# EAGLE library part DPDT-VERTICAL-DOWN (library Switches)
Vertical DPDT switch in the down position.
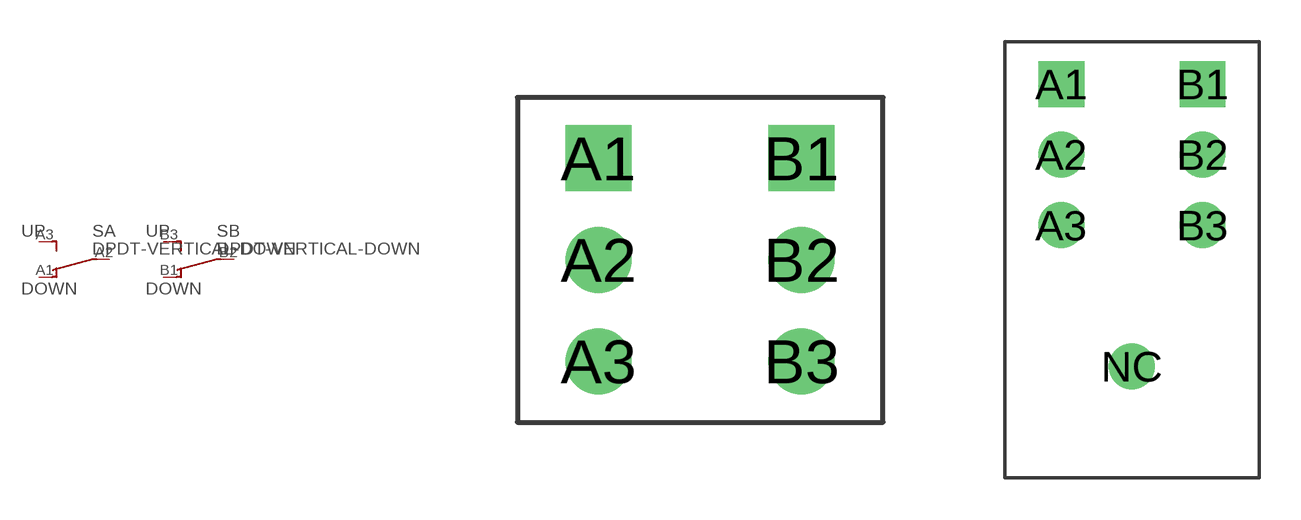
[diagram p1: symbol with the pads of DPDT-VERTICAL-TOP-SUBMINI-MULTICOMP; footprints DPDT-VERTICAL-TOP-SUBMINI-MULTICOMP, DPDT-VERTICAL-SIDE-SUBMINI-MULTICOMP]

Designator prefix S; gates A=SPDT-VERTICAL-DOWN B=SPDT-VERTICAL-DOWN

## DPDT-VERTICAL-DOWNTOP-SUBMINI (SPICE: R{NAME}A {A.2.NET} {A.1.NET} 1\nR{NAME}B {B.2.NET} {B.1.NET} 1)  [DPDT-VERTICAL-TOP-SUBMINI-MULTICOMP]
A1  A:1  pas
A2  A:2  pas
A3  A:3  pas
B1  B:1  pas
B2  B:2  pas
B3  B:3  pas

## DPDT-VERTICAL-DOWNSIDE-SUBMINI (SPICE: R{NAME}A {A.2.NET} {A.1.NET} 1\nR{NAME}B {B.2.NET} {B.1.NET} 1)  [DPDT-VERTICAL-SIDE-SUBMINI-MULTICOMP]
Pads as for DPDT-VERTICAL-TOP-SUBMINI-MULTICOMP

## DPDT-VERTICAL-DOWNTOP-MINI (SPICE: R{NAME}A {A.2.NET} {A.1.NET} 1\nR{NAME}B {B.2.NET} {B.1.NET} 1)  [DPDT-VERTICAL-TOP-MINI-MULTICOMP]
Pads as for DPDT-VERTICAL-TOP-SUBMINI-MULTICOMP

## DPDT-VERTICAL-DOWNSIDE-MINI (SPICE: R{NAME}A {A.2.NET} {A.1.NET} 1\nR{NAME}B {B.2.NET} {B.1.NET} 1)  [DPDT-VERTICAL-SIDE-MINI-MULTICOMP]
Pads as for DPDT-VERTICAL-TOP-SUBMINI-MULTICOMP

## Footprint DPDT-VERTICAL-TOP-SUBMINI-MULTICOMP (pad centres in mm)
Multicomp vertical top adjust DPDT switch, 1.1mm drill, 0.1in lead spacing.
drill 1.1 square: A1 -2.54,2.54; B1 2.54,2.54
drill 1.1 round: A2 -2.54,0; A3 -2.54,-2.54; B2 2.54,0; B3 2.54,-2.54

## Footprint DPDT-VERTICAL-SIDE-SUBMINI-MULTICOMP (pad centres in mm)
Multicomp vertical side adjust DPDT switch, 1.1mm drill, 0.1in lead spacing.
drill 1.1 square: A1 -2.54,10.16; B1 2.54,10.16
drill 1.1 round: A2 -2.54,7.62; A3 -2.54,5.08; B2 2.54,7.62; B3 2.54,5.08; NC 0,0

## Footprint DPDT-VERTICAL-TOP-MINI-MULTICOMP (pad centres in mm)
Multicomp vertical top adjust miniature DPDT switch, 1.9mm drill, 0.185in lead spacing.
drill 1.9 square: A1 -2.413,4.699; B1 2.413,4.699
drill 1.9 round: A2 -2.413,0; A3 -2.413,-4.699; B2 2.413,0; B3 2.413,-4.699; NC1 -1.587,7.874; NC2 1.587,7.874; NC3 -1.587,-7.874; NC4 1.587,-7.874

## Footprint DPDT-VERTICAL-SIDE-MINI-MULTICOMP (pad centres in mm)
drill 1.9 square: A1 -2.413,20.32; B1 2.413,20.32
drill 1.9 round: A2 -2.413,16.51; A3 -2.413,12.7; B2 2.413,16.51; B3 2.413,12.7; NC1 -2.54,0; NC2 2.54,0